# EAGLE library part 11-0060-A (library Labops_Lib_AH)
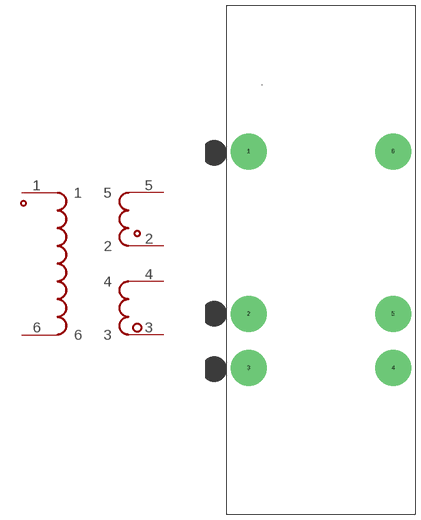
[diagram p83: symbol with the pads of 11-0060-A; footprint 11-0060-A]

Designator prefix TR

## 11-0060-A (DESCRIPTION: 4KW Full Bridge Transformer, THT; MFN: 11-0060-A; MFR: Dongguan Speed Electronics)  [11-0060-A]
1  1
2  2
3  3
4  4
5  5
6  6

## Footprint 11-0060-A (pad centres in mm)
drill 6 pad 10: 1 -20,30; 2 -20,-15; 3 -20,-30; 4 20,-30; 5 20,-15; 6 20,30